# EAGLE library part CAT24C64 (library df4iah_memory)
CAT24C64 Serial EEPROM 8k x 8Bits, I2C
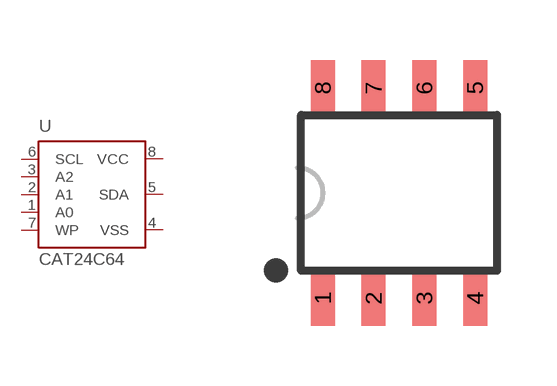
[diagram p79: symbol with the pads of SOIC8_150MIL; footprint SOIC8_150MIL]

Designator prefix U

## CAT24C64  [SOIC8_150MIL]
1  A0  in
2  A1  in
3  A2  in
4  VSS  pwr
5  SDA
6  SCL  in
7  WP  in
8  VCC  pwr

## Footprint SOIC8_150MIL (pad centres in mm)
Plastic Small Outline - SOIC8 150 mils CASE 751BD
smd 0.6 x 1.4: 1 -1.905,-2.63; 2 -0.635,-2.63; 3 0.635,-2.63; 4 1.905,-2.63; 5 1.905,2.63; 6 0.635,2.63; 7 -0.635,2.63; 8 -1.905,2.63